# Altium footprint library Boost-Shield.PcbLib: 7 footprints
Each footprint in its own frame and in the unit in brackets; x right, y up, seen from the top. Pads: shape width x height; smd on the part's side, far side on the other; paste and mask are expansions set on the pad; w line width, h text height; cw(c..) or ccw(c..) is an arc to the next point about the centre after c.
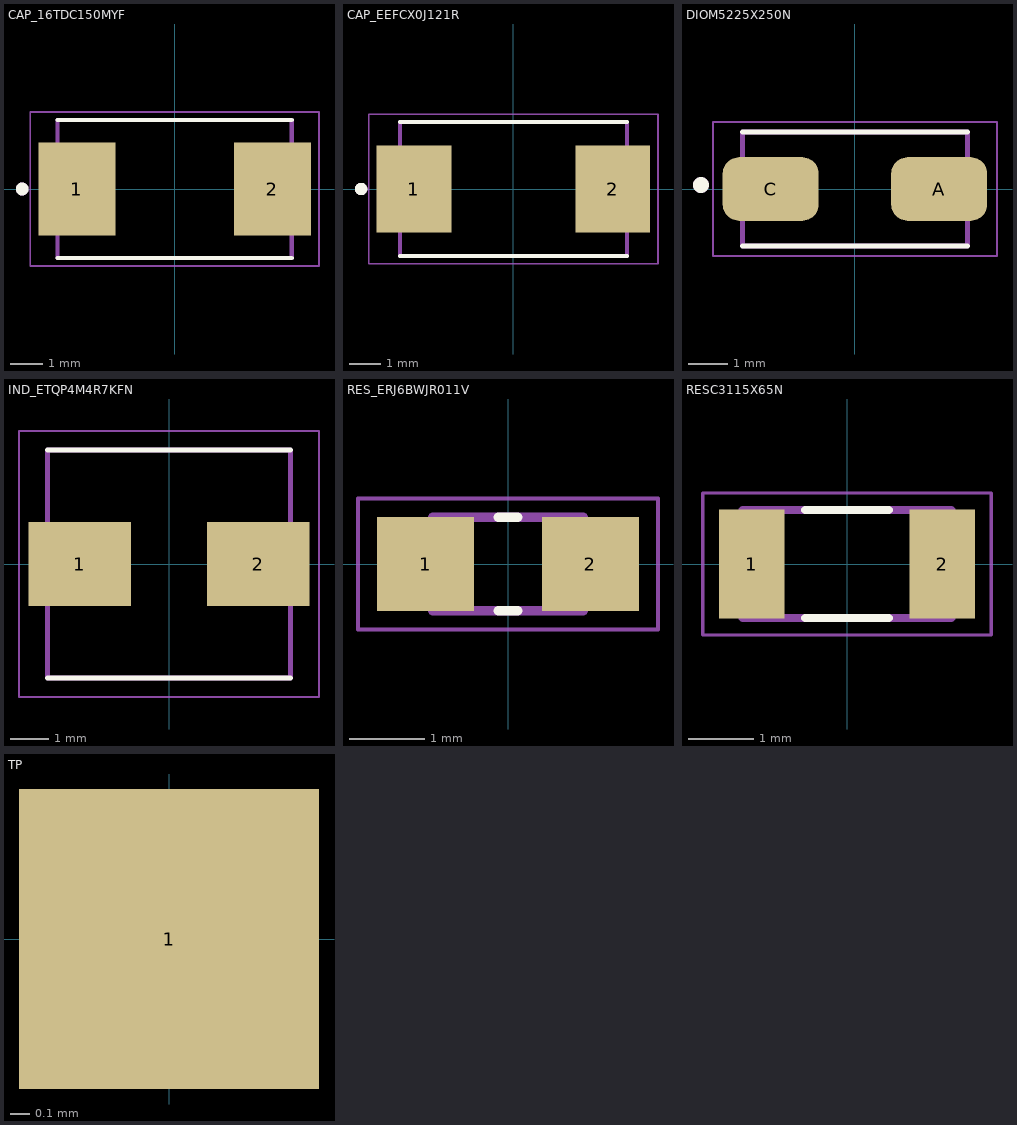
[diagram p0: the footprints below, top view; thin cyan lines are the x and y axes]

## CAP_16TDC150MYF [mm]
pads (2):
  rect 2.4x2.9 smd: 1(-3.05,0) 2(3.05,0)
Top Overlay:
  circle w0.2: c-4.75,0 r0.1
  lines w0.127: -3.65,-2.15 3.65,-2.15 ; -3.65,2.15 3.65,2.15
Mechanical 13:
  circle w0.2: c-4.75,0 r0.1
  lines w0.127: -3.65,-2.15 -3.65,2.15 3.65,2.15 3.65,-2.15 -3.65,-2.15
Mechanical 15:
  lines w0.05: -4.5,-2.4 -4.5,2.4 4.5,2.4 4.5,-2.4 -4.5,-2.4
3D body "16TDC150MYF.STEP": height 2.88, standoff 0.08, extent -3.65,-2.15 3.65,2.15

## CAP_EEFCX0J121R [mm]
pads (2):
  rect 2.4x2.8 smd: 1(-3.2,0) 2(3.2,0)
Top Overlay:
  circle w0.2: c-4.9,0 r0.1
  lines w0.127: -3.65,-2.15 3.65,-2.15 ; -3.65,2.15 3.65,2.15
Mechanical 13:
  circle w0.2: c-4.9,0 r0.1
  lines w0.127: -3.65,-2.15 3.65,-2.15 3.65,2.15 -3.65,2.15 -3.65,-2.15
Mechanical 15:
  lines w0.05: -4.65,-2.4 4.65,-2.4 4.65,2.4 -4.65,2.4 -4.65,-2.4
3D body "EEFCX0J121R.STEP": height 1.9, standoff 0, extent -3.827,-2.15 3.573,2.15

## DIOM5225X250N [mm]
pads (2):
  rrect50% 2.43x1.61 smd: A(2.135,0) C(-2.135,0)
Top Overlay:
  circle w0.2: c-3.9,0.1 r0.1
  lines w0.127: -2.85,-1.45 2.85,-1.45 ; -2.85,1.45 2.85,1.45
Mechanical 13:
  circle w0.2: c-3.9,0.1 r0.1
  lines w0.127: -2.85,-1.45 -2.85,1.45 2.85,1.45 2.85,-1.45 -2.85,-1.45
Mechanical 15:
  lines w0.05: -3.6,-1.7 3.6,-1.7 3.6,1.7 -3.6,1.7 -3.6,-1.7
3D body "CDBA-HF.step": height 2.54, standoff 0, extent -2.654,-1.448 2.654,1.448

## IND_ETQP4M4R7KFN [mm]
pads (2):
  rect 2.7x2.2 smd: 1(-2.35,0) 2(2.35,0)
Top Overlay:
  lines w0.127: -3.2,-3 3.2,-3 ; -3.2,3 3.2,3
Mechanical 13:
  lines w0.127: -3.2,-3 3.2,-3 3.2,3 -3.2,3 -3.2,-3
Mechanical 15:
  lines w0.05: -3.95,-3.5 3.95,-3.5 3.95,3.5 -3.95,3.5 -3.95,-3.5
3D body "step_temp.STEP": height 4.8, standoff 0, extent -3.2,-3 3.2,3

## RES_ERJ6BWJR011V [mm]
pads (2):
  rect 1.3x1.25 smd: 1(-1.1,0) 2(1.1,0)
Top Overlay:
  lines w0.127: -0.13,-0.625 0.13,-0.625 ; -0.13,0.625 0.13,0.625
Mechanical 13:
  lines w0.127: -1,-0.625 -1,0.625 1,0.625 1,-0.625 -1,-0.625
Mechanical 15:
  lines w0.05: -2,-0.875 -2,0.875 2,0.875 2,-0.875 -2,-0.875
3D body "step_temp.STEP": height 0.65, standoff 0, extent -1,-0.625 1,0.625

## RESC3115X65N [mm]
pads (2):
  rect 1x1.68 smd: 1(-1.463,0) 2(1.463,0)
Top Overlay:
  lines w0.127: -0.64,-0.83 0.64,-0.83 ; -0.64,0.83 0.64,0.83
Mechanical 13:
  lines w0.127: -1.6,-0.83 1.6,-0.83 1.6,0.83 -1.6,0.83 -1.6,-0.83
Mechanical 15:
  lines w0.05: -2.215,-1.09 2.215,-1.09 2.215,1.09 -2.215,1.09 -2.215,-1.09
3D body "RLP73V2BR011FTDF.STEP": height 0.65, standoff 0, extent -1.55,-0.762 1.55,0.788

## TP [mil]
pads (1):
  rect 60x60 smd: 1(0,0)